# Altium schematic symbol library LTC3388.SchLib: 1 symbol
Pins are listed as number, name and electrical type; pins without a type are passive.

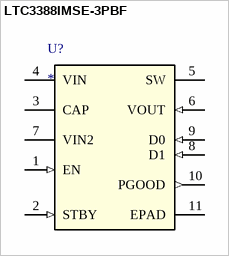
[diagram p0: symbol LTC3388IMSE-3PBF]

## LTC3388IMSE-3PBF
designator U?
20V High Efficiency Nanopower Step-Down Regulator; Manufacturer_Part_Number: ltc3388imse-3#pbf; Vendor: Linear Technology; Value: Value; Type: Type; RefDes: RefDes
footprint MSOP-10_MSE
pins: 1 EN (in), 2 STBY (in), 3 CAP (power), 4 VIN (power), 5 SW, 6 VOUT (in), 7 VIN2 (power), 8 D1 (in), 9 D0 (in), 10 PGOOD (out), 11 EPAD